# Altium schematic symbol library capacitors.SchLib: 195 symbols (part 3 of 4)
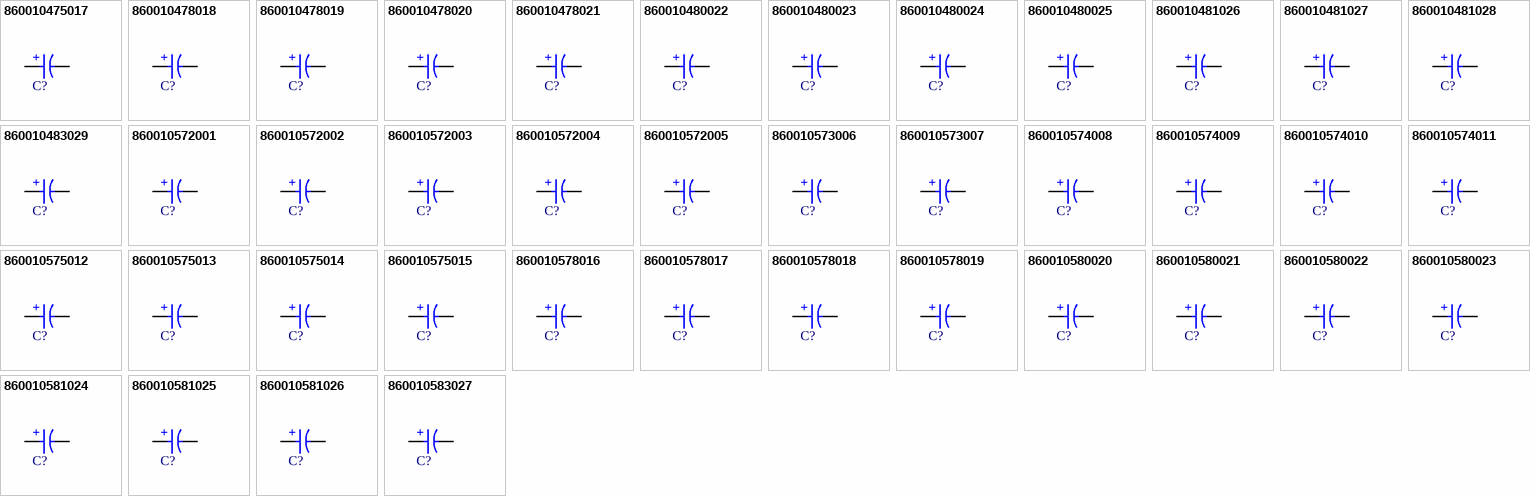
[diagram p6: symbols 860010475017 to 860010583027]

## 860010574011
designator C?, comment 220uF  (value not drawn)
WCAP-ATG8 Aluminum Electrolytic Capacitor, Radial, THT, D8 x H11.5mm, 220uF, 35V; Manufacturer Part Number: 860010574011; Manufacturer: Wurth Elektronik; Capacitance Tolerance: +/-20%; Dissipation Factor: 12%; Endurance: 2000h; Leakage Current: 77uA; Ripple Current: 385mA; Technical Reference: ATBE115221M035DSPA7B000; Category: Aluminum Electrolytic Capacitors; Match Code: WCAP-ATG8; ComponentLink1Description: Website Link; ComponentLink1URL: https://www.we-online.com/redexpert/article/860010574011?ad; ComponentLink2Description: Datasheet Link; ComponentLink2URL: https://www.we-online.com/redexpert/spec/860010574011?ad; Mount: Through Hole; Operating Temperature Max: 85°C; Operating Temperature Min: -40°C; Packaging: Ammo Pack; Height: 11.5mm; Diameter: 8mm; Capacitance: 220uF; Rated Voltage (DC): 35V
footprint WCAP-ATG8_D8H11.5
simulation model 860010574011_220uF
pins: 1 P, 2 N
text: +

## 860010575012
designator C?, comment 330uF  (value not drawn)
WCAP-ATG8 Aluminum Electrolytic Capacitor, Radial, THT, D10 x H12.5mm, 330uF, 35V; Manufacturer Part Number: 860010575012; Manufacturer: Wurth Elektronik; Capacitance Tolerance: +/-20%; Dissipation Factor: 12%; Endurance: 2000h; Leakage Current: 115.5uA; Ripple Current: 528mA; Technical Reference: ATBF125331M035DSPA9B000; Category: Aluminum Electrolytic Capacitors; Match Code: WCAP-ATG8; ComponentLink1Description: Website Link; ComponentLink1URL: https://www.we-online.com/redexpert/article/860010575012?ad; ComponentLink2Description: Datasheet Link; ComponentLink2URL: https://www.we-online.com/redexpert/spec/860010575012?ad; Mount: Through Hole; Operating Temperature Max: 85°C; Operating Temperature Min: -40°C; Packaging: Ammo Pack; Height: 12.5mm; Diameter: 10mm; Capacitance: 330uF; Rated Voltage (DC): 35V
footprint WCAP-ATG8_D10H12.5
simulation model 860010575012_330uF
pins: 1 P, 2 N
text: +

## 860010575013
designator C?, comment 470uF  (value not drawn)
WCAP-ATG8 Aluminum Electrolytic Capacitor, Radial, THT, D10 x H16mm, 470uF, 35V; Manufacturer Part Number: 860010575013; Manufacturer: Wurth Elektronik; Capacitance Tolerance: +/-20%; Dissipation Factor: 12%; Endurance: 2000h; Leakage Current: 164.5uA; Ripple Current: 693mA; Technical Reference: ATBF160471M035DSPAAB000; Category: Aluminum Electrolytic Capacitors; Match Code: WCAP-ATG8; ComponentLink1Description: Website Link; ComponentLink1URL: https://www.we-online.com/redexpert/article/860010575013?ad; ComponentLink2Description: Datasheet Link; ComponentLink2URL: https://www.we-online.com/redexpert/spec/860010575013?ad; Mount: Through Hole; Operating Temperature Max: 85°C; Operating Temperature Min: -40°C; Packaging: Ammo Pack; Height: 16mm; Diameter: 10mm; Capacitance: 470uF; Rated Voltage (DC): 35V
footprint WCAP-ATG8_D10H16
simulation model 860010575013_470uF
pins: 1 P, 2 N
text: +

## 860010575014
designator C?, comment 560uF  (value not drawn)
WCAP-ATG8 Aluminum Electrolytic Capacitor, Radial, THT, D10 x H20mm, 560uF, 35V; Manufacturer Part Number: 860010575014; Manufacturer: Wurth Elektronik; Capacitance Tolerance: +/-20%; Dissipation Factor: 12%; Endurance: 2000h; Leakage Current: 196uA; Ripple Current: 847mA; Technical Reference: ATBF200561M035DSPAAB000; Category: Aluminum Electrolytic Capacitors; Match Code: WCAP-ATG8; ComponentLink1Description: Website Link; ComponentLink1URL: https://www.we-online.com/redexpert/article/860010575014?ad; ComponentLink2Description: Datasheet Link; ComponentLink2URL: https://www.we-online.com/redexpert/spec/860010575014?ad; Mount: Through Hole; Operating Temperature Max: 85°C; Operating Temperature Min: -40°C; Packaging: Ammo Pack; Height: 20mm; Diameter: 10mm; Capacitance: 560uF; Rated Voltage (DC): 35V
footprint WCAP-ATG8_D10H20
simulation model 860010575014_560uF
pins: 1 P, 2 N
text: +

## 860010575015
designator C?, comment 680uF  (value not drawn)
WCAP-ATG8 Aluminum Electrolytic Capacitor, Radial, THT, D10 x H20mm, 680uF, 35V; Manufacturer Part Number: 860010575015; Manufacturer: Wurth Elektronik; Capacitance Tolerance: +/-20%; Dissipation Factor: 12%; Endurance: 2000h; Leakage Current: 238uA; Ripple Current: 891mA; Technical Reference: ATBF200681M035DSPAAB000; Category: Aluminum Electrolytic Capacitors; Match Code: WCAP-ATG8; ComponentLink1Description: Website Link; ComponentLink1URL: https://www.we-online.com/redexpert/article/860010575015?ad; ComponentLink2Description: Datasheet Link; ComponentLink2URL: https://www.we-online.com/redexpert/spec/860010575015?ad; Mount: Through Hole; Operating Temperature Max: 85°C; Operating Temperature Min: -40°C; Packaging: Ammo Pack; Height: 20mm; Diameter: 10mm; Capacitance: 680uF; Rated Voltage (DC): 35V
footprint WCAP-ATG8_D10H20
simulation model 860010575015_680uF
pins: 1 P, 2 N
text: +

## 860010578016
designator C?, comment 820uF  (value not drawn)
WCAP-ATG8 Aluminum Electrolytic Capacitor, Radial, THT, D13 x H20mm, 820uF, 35V; Manufacturer Part Number: 860010578016; Manufacturer: Wurth Elektronik; Capacitance Tolerance: +/-20%; Dissipation Factor: 12%; Endurance: 2000h; Leakage Current: 287uA; Ripple Current: 1045mA; Technical Reference: ATBI200821M035DSPACB000; Category: Aluminum Electrolytic Capacitors; Match Code: WCAP-ATG8; ComponentLink1Description: Website Link; ComponentLink1URL: https://www.we-online.com/redexpert/article/860010578016?ad; ComponentLink2Description: Datasheet Link; ComponentLink2URL: https://www.we-online.com/redexpert/spec/860010578016?ad; Mount: Through Hole; Operating Temperature Max: 85°C; Operating Temperature Min: -40°C; Packaging: Ammo Pack; Height: 20mm; Diameter: 13mm; Capacitance: 820uF; Rated Voltage (DC): 35V
footprint WCAP-ATG8_D13H20
simulation model 860010578016_820uF
pins: 1 P, 2 N
text: +

## 860010578017
designator C?, comment 1000uF  (value not drawn)
WCAP-ATG8 Aluminum Electrolytic Capacitor, Radial, THT, D13 x H20mm, 1000uF, 35V; Manufacturer Part Number: 860010578017; Manufacturer: Wurth Elektronik; Capacitance Tolerance: +/-20%; Dissipation Factor: 12%; Endurance: 2000h; Leakage Current: 350uA; Ripple Current: 1265mA; Technical Reference: ATBI200102M035DSPACB000; Category: Aluminum Electrolytic Capacitors; Match Code: WCAP-ATG8; ComponentLink1Description: Website Link; ComponentLink1URL: https://www.we-online.com/redexpert/article/860010578017?ad; ComponentLink2Description: Datasheet Link; ComponentLink2URL: https://www.we-online.com/redexpert/spec/860010578017?ad; Mount: Through Hole; Operating Temperature Max: 85°C; Operating Temperature Min: -40°C; Packaging: Ammo Pack; Height: 20mm; Diameter: 13mm; Capacitance: 1000uF; Rated Voltage (DC): 35V
footprint WCAP-ATG8_D13H20
simulation model 860010578017_1mF
pins: 1 P, 2 N
text: +

## 860010578018
designator C?, comment 1200uF  (value not drawn)
WCAP-ATG8 Aluminum Electrolytic Capacitor, Radial, THT, D13 x H20mm, 1200uF, 35V; Manufacturer Part Number: 860010578018; Manufacturer: Wurth Elektronik; Capacitance Tolerance: +/-20%; Dissipation Factor: 12%; Endurance: 2000h; Leakage Current: 420uA; Ripple Current: 1375mA; Technical Reference: ATBI200122M035DSPACB000; Category: Aluminum Electrolytic Capacitors; Match Code: WCAP-ATG8; ComponentLink1Description: Website Link; ComponentLink1URL: https://www.we-online.com/redexpert/article/860010578018?ad; ComponentLink2Description: Datasheet Link; ComponentLink2URL: https://www.we-online.com/redexpert/spec/860010578018?ad; Mount: Through Hole; Operating Temperature Max: 85°C; Operating Temperature Min: -40°C; Packaging: Ammo Pack; Height: 20mm; Diameter: 13mm; Capacitance: 1200uF; Rated Voltage (DC): 35V
footprint WCAP-ATG8_D13H20
simulation model 860010578018_1.2mF
pins: 1 P, 2 N
text: +

## 860010578019
designator C?, comment 1500uF  (value not drawn)
WCAP-ATG8 Aluminum Electrolytic Capacitor, Radial, THT, D13 x H25mm, 1500uF, 35V; Manufacturer Part Number: 860010578019; Manufacturer: Wurth Elektronik; Capacitance Tolerance: +/-20%; Dissipation Factor: 12%; Endurance: 2000h; Leakage Current: 525uA; Ripple Current: 1570mA; Technical Reference: ATBI250152M035DSPACB000; Category: Aluminum Electrolytic Capacitors; Match Code: WCAP-ATG8; ComponentLink1Description: Website Link; ComponentLink1URL: https://www.we-online.com/redexpert/article/860010578019?ad; ComponentLink2Description: Datasheet Link; ComponentLink2URL: https://www.we-online.com/redexpert/spec/860010578019?ad; Mount: Through Hole; Operating Temperature Max: 85°C; Operating Temperature Min: -40°C; Packaging: Ammo Pack; Height: 25mm; Diameter: 13mm; Capacitance: 1500uF; Rated Voltage (DC): 35V
footprint WCAP-ATG8_D13H25
simulation model 860010578019_1.5mF
pins: 1 P, 2 N
text: +

## 860010580020
designator C?, comment 1800uF  (value not drawn)
WCAP-ATG8 Aluminum Electrolytic Capacitor, Radial, THT, D16 x H25mm, 1800uF, 35V; Manufacturer Part Number: 860010580020; Manufacturer: Wurth Elektronik; Capacitance Tolerance: +/-20%; Dissipation Factor: 12%; Endurance: 2000h; Leakage Current: 630uA; Ripple Current: 1749mA; Technical Reference: ATBK250182M035DSPAEB000; Category: Aluminum Electrolytic Capacitors; Match Code: WCAP-ATG8; ComponentLink1Description: Website Link; ComponentLink1URL: https://www.we-online.com/redexpert/article/860010580020?ad; ComponentLink2Description: Datasheet Link; ComponentLink2URL: https://www.we-online.com/redexpert/spec/860010580020?ad; Mount: Through Hole; Operating Temperature Max: 85°C; Operating Temperature Min: -40°C; Packaging: Ammo Pack; Height: 25mm; Diameter: 16mm; Capacitance: 1800uF; Rated Voltage (DC): 35V
footprint WCAP-ATG8_D16H25
simulation model 860010580020_1.8mF
pins: 1 P, 2 N
text: +

## 860010580021
designator C?, comment 2200uF  (value not drawn)
WCAP-ATG8 Aluminum Electrolytic Capacitor, Radial, THT, D16 x H25mm, 2200uF, 35V; Manufacturer Part Number: 860010580021; Manufacturer: Wurth Elektronik; Capacitance Tolerance: +/-20%; Dissipation Factor: 12%; Endurance: 2000h; Leakage Current: 770uA; Ripple Current: 1870mA; Technical Reference: ATBK250222M035DSPAEB000; Category: Aluminum Electrolytic Capacitors; Match Code: WCAP-ATG8; ComponentLink1Description: Website Link; ComponentLink1URL: https://www.we-online.com/redexpert/article/860010580021?ad; ComponentLink2Description: Datasheet Link; ComponentLink2URL: https://www.we-online.com/redexpert/spec/860010580021?ad; Mount: Through Hole; Operating Temperature Max: 85°C; Operating Temperature Min: -40°C; Packaging: Ammo Pack; Height: 25mm; Diameter: 16mm; Capacitance: 2200uF; Rated Voltage (DC): 35V
footprint WCAP-ATG8_D16H25
simulation model 860010580021_2.2mF
pins: 1 P, 2 N
text: +

## 860010580022
designator C?, comment 2700uF  (value not drawn)
WCAP-ATG8 Aluminum Electrolytic Capacitor, Radial, THT, D16 x H31.5mm, 2700uF, 35V; Manufacturer Part Number: 860010580022; Manufacturer: Wurth Elektronik; Capacitance Tolerance: +/-20%; Dissipation Factor: 12%; Endurance: 2000h; Leakage Current: 945uA; Ripple Current: 2178mA; Technical Reference: ATBK315272M035DSPADB000; Category: Aluminum Electrolytic Capacitors; Match Code: WCAP-ATG8; ComponentLink1Description: Website Link; ComponentLink1URL: https://www.we-online.com/redexpert/article/860010580022?ad; ComponentLink2Description: Datasheet Link; ComponentLink2URL: https://www.we-online.com/redexpert/spec/860010580022?ad; Mount: Through Hole; Operating Temperature Max: 85°C; Operating Temperature Min: -40°C; Packaging: Ammo Pack; Height: 31.5mm; Diameter: 16mm; Capacitance: 2700uF; Rated Voltage (DC): 35V
footprint WCAP-ATG8_D16H31.5
simulation model 860010580022_2.7mF
pins: 1 P, 2 N
text: +

## 860010580023
designator C?, comment 3300uF  (value not drawn)
WCAP-ATG8 Aluminum Electrolytic Capacitor, Radial, THT, D16 x H31.5mm, 3300uF, 35V; Manufacturer Part Number: 860010580023; Manufacturer: Wurth Elektronik; Capacitance Tolerance: +/-20%; Dissipation Factor: 12%; Endurance: 2000h; Leakage Current: 1155uA; Ripple Current: 2365mA; Technical Reference: ATBK315332M035DSPADB000; Category: Aluminum Electrolytic Capacitors; Match Code: WCAP-ATG8; ComponentLink1Description: Website Link; ComponentLink1URL: https://www.we-online.com/redexpert/article/860010580023?ad; ComponentLink2Description: Datasheet Link; ComponentLink2URL: https://www.we-online.com/redexpert/spec/860010580023?ad; Mount: Through Hole; Operating Temperature Max: 85°C; Operating Temperature Min: -40°C; Packaging: Ammo Pack; Height: 31.5mm; Diameter: 16mm; Capacitance: 3300uF; Rated Voltage (DC): 35V
footprint WCAP-ATG8_D16H31.5
simulation model 860010580023_3.3mF
pins: 1 P, 2 N
text: +

## 860010581024
designator C?, comment 3900uF  (value not drawn)
WCAP-ATG8 Aluminum Electrolytic Capacitor, Radial, THT, D18 x H31.5mm, 3900uF, 35V; Manufacturer Part Number: 860010581024; Manufacturer: Wurth Elektronik; Capacitance Tolerance: +/-20%; Dissipation Factor: 12%; Endurance: 2000h; Leakage Current: 1365uA; Ripple Current: 2640mA; Technical Reference: ATBL315392M035DSPAEB000; Category: Aluminum Electrolytic Capacitors; Match Code: WCAP-ATG8; ComponentLink1Description: Website Link; ComponentLink1URL: https://www.we-online.com/redexpert/article/860010581024?ad; ComponentLink2Description: Datasheet Link; ComponentLink2URL: https://www.we-online.com/redexpert/spec/860010581024?ad; Mount: Through Hole; Operating Temperature Max: 85°C; Operating Temperature Min: -40°C; Packaging: Ammo Pack; Height: 31.5mm; Diameter: 18mm; Capacitance: 3900uF; Rated Voltage (DC): 35V
footprint WCAP-ATG8_D18H31.5
simulation model 860010581024_3.9mF
pins: 1 P, 2 N
text: +

## 860010581025
designator C?, comment 4700uF  (value not drawn)
WCAP-ATG8 Aluminum Electrolytic Capacitor, Radial, THT, D18 x H35.5mm, 4700uF, 35V; Manufacturer Part Number: 860010581025; Manufacturer: Wurth Elektronik; Capacitance Tolerance: +/-20%; Dissipation Factor: 12%; Endurance: 2000h; Leakage Current: 1645uA; Ripple Current: 2860mA; Technical Reference: ATBL355472M035DSPAEB000; Category: Aluminum Electrolytic Capacitors; Match Code: WCAP-ATG8; ComponentLink1Description: Website Link; ComponentLink1URL: https://www.we-online.com/redexpert/article/860010581025?ad; ComponentLink2Description: Datasheet Link; ComponentLink2URL: https://www.we-online.com/redexpert/spec/860010581025?ad; Mount: Through Hole; Operating Temperature Max: 85°C; Operating Temperature Min: -40°C; Packaging: Ammo Pack; Height: 35.5mm; Diameter: 18mm; Capacitance: 4700uF; Rated Voltage (DC): 35V
footprint WCAP-ATG8_D18H35.5
simulation model 860010581025_4.7mF
pins: 1 P, 2 N
text: +

## 860010581026
designator C?, comment 5600uF  (value not drawn)
WCAP-ATG8 Aluminum Electrolytic Capacitor, Radial, THT, D18 x H41mm, 5600uF, 35V; Manufacturer Part Number: 860010581026; Manufacturer: Wurth Elektronik; Capacitance Tolerance: +/-20%; Dissipation Factor: 12%; Endurance: 2000h; Leakage Current: 1960uA; Ripple Current: 2915mA; Technical Reference: ATBL410562M035DSPS1B000; Category: Aluminum Electrolytic Capacitors; Match Code: WCAP-ATG8; ComponentLink1Description: Website Link; ComponentLink1URL: https://www.we-online.com/redexpert/article/860010581026?ad; ComponentLink2Description: Datasheet Link; ComponentLink2URL: https://www.we-online.com/redexpert/spec/860010581026?ad; Mount: Through Hole; Operating Temperature Max: 85°C; Operating Temperature Min: -40°C; Packaging: Ammo Pack; Height: 41mm; Diameter: 18mm; Capacitance: 5600uF; Rated Voltage (DC): 35V
footprint WCAP-ATG8_D18H41
simulation model 860010581026_5.6mF
pins: 1 P, 2 N
text: +

## 860010583027
designator C?, comment 6800uF  (value not drawn)
WCAP-ATG8 Aluminum Electrolytic Capacitor, Radial, THT, D22 x H41mm, 6800uF, 35V; Manufacturer Part Number: 860010583027; Manufacturer: Wurth Elektronik; Capacitance Tolerance: +/-20%; Dissipation Factor: 12%; Endurance: 2000h; Leakage Current: 2380uA; Ripple Current: 3630mA; Technical Reference: ATBN410682M035DSPS2B000; Category: Aluminum Electrolytic Capacitors; Match Code: WCAP-ATG8; ComponentLink1Description: Website Link; ComponentLink1URL: https://www.we-online.com/redexpert/article/860010583027?ad; ComponentLink2Description: Datasheet Link; ComponentLink2URL: https://www.we-online.com/redexpert/spec/860010583027?ad; Mount: Through Hole; Operating Temperature Max: 85°C; Operating Temperature Min: -40°C; Packaging: Ammo Pack; Height: 41mm; Diameter: 22mm; Capacitance: 6800uF; Rated Voltage (DC): 35V
footprint WCAP-ATG8_D22H41
simulation model 860010583027_6.8mF
pins: 1 P, 2 N
text: +

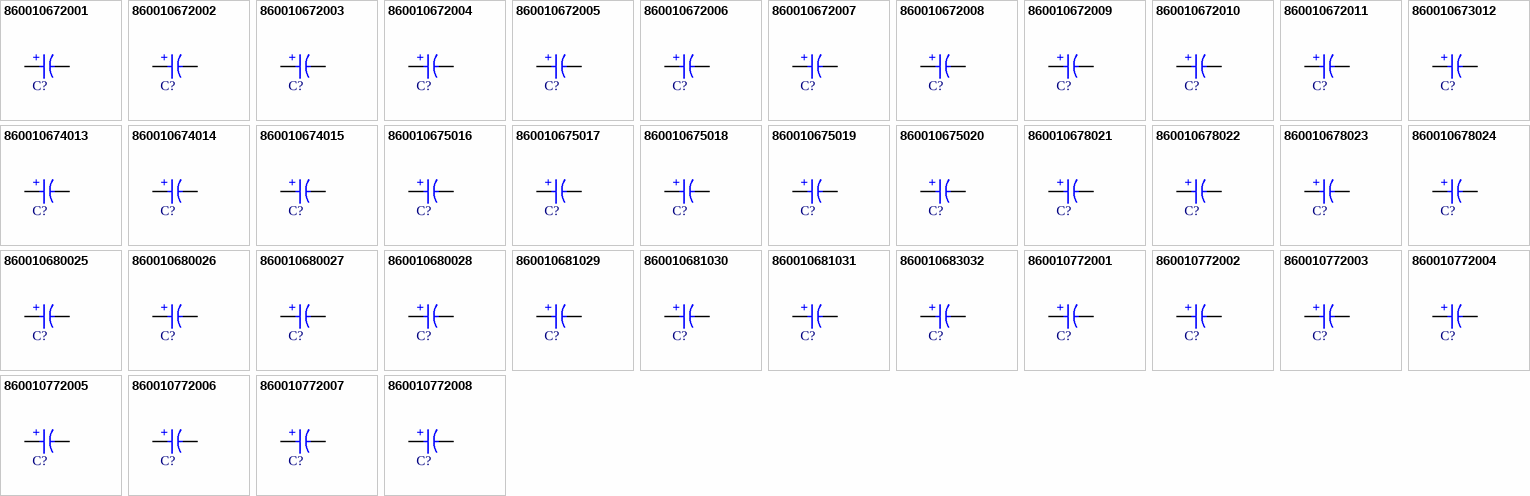
[diagram p3: symbols 860010672001 to 860010772008]

## 860010672001
designator C?, comment 0.1uF  (value not drawn)
WCAP-ATG8 Aluminum Electrolytic Capacitor, Radial, THT, D5 x H11mm, 0.1uF, 50V; Manufacturer Part Number: 860010672001; Manufacturer: Wurth Elektronik; Capacitance Tolerance: +/-20%; Dissipation Factor: 10%; Endurance: 2000h; Leakage Current: 3uA; Ripple Current: 3.3mA; Technical Reference: ATBC110R10M050DSPA3B000; Category: Aluminum Electrolytic Capacitors; Match Code: WCAP-ATG8; ComponentLink1Description: Website Link; ComponentLink1URL: https://www.we-online.com/redexpert/article/860010672001?ad; ComponentLink2Description: Datasheet Link; ComponentLink2URL: https://www.we-online.com/redexpert/spec/860010672001?ad; Mount: Through Hole; Operating Temperature Max: 85°C; Operating Temperature Min: -40°C; Packaging: Ammo Pack; Height: 11mm; Diameter: 5mm; Capacitance: 0.1uF; Rated Voltage (DC): 50V
footprint WCAP-ATG8_D5H11
simulation model 860010672001_100nF
pins: 1 P, 2 N
text: +

## 860010672002
designator C?, comment 0.22uF  (value not drawn)
WCAP-ATG8 Aluminum Electrolytic Capacitor, Radial, THT, D5 x H11mm, 0.22uF, 50V; Manufacturer Part Number: 860010672002; Manufacturer: Wurth Elektronik; Capacitance Tolerance: +/-20%; Dissipation Factor: 10%; Endurance: 2000h; Leakage Current: 3uA; Ripple Current: 3.3mA; Technical Reference: ATBC110R22M050DSPA3B000; Category: Aluminum Electrolytic Capacitors; Match Code: WCAP-ATG8; ComponentLink1Description: Website Link; ComponentLink1URL: https://www.we-online.com/redexpert/article/860010672002?ad; ComponentLink2Description: Datasheet Link; ComponentLink2URL: https://www.we-online.com/redexpert/spec/860010672002?ad; Mount: Through Hole; Operating Temperature Max: 85°C; Operating Temperature Min: -40°C; Packaging: Ammo Pack; Height: 11mm; Diameter: 5mm; Capacitance: 0.22uF; Rated Voltage (DC): 50V
footprint WCAP-ATG8_D5H11
simulation model 860010672002_220nF
pins: 1 P, 2 N
text: +

## 860010672003
designator C?, comment 0.33uF  (value not drawn)
WCAP-ATG8 Aluminum Electrolytic Capacitor, Radial, THT, D5 x H11mm, 0.33uF, 50V; Manufacturer Part Number: 860010672003; Manufacturer: Wurth Elektronik; Capacitance Tolerance: +/-20%; Dissipation Factor: 10%; Endurance: 2000h; Leakage Current: 3uA; Ripple Current: 5.5mA; Technical Reference: ATBC110R33M050DSPA3B000; Category: Aluminum Electrolytic Capacitors; Match Code: WCAP-ATG8; ComponentLink1Description: Website Link; ComponentLink1URL: https://www.we-online.com/redexpert/article/860010672003?ad; ComponentLink2Description: Datasheet Link; ComponentLink2URL: https://www.we-online.com/redexpert/spec/860010672003?ad; Mount: Through Hole; Operating Temperature Max: 85°C; Operating Temperature Min: -40°C; Packaging: Ammo Pack; Height: 11mm; Diameter: 5mm; Capacitance: 0.33uF; Rated Voltage (DC): 50V
footprint WCAP-ATG8_D5H11
simulation model 860010672003_330nF
pins: 1 P, 2 N
text: +

## 860010672004
designator C?, comment 0.47uF  (value not drawn)
WCAP-ATG8 Aluminum Electrolytic Capacitor, Radial, THT, D5 x H11mm, 0.47uF, 50V; Manufacturer Part Number: 860010672004; Manufacturer: Wurth Elektronik; Capacitance Tolerance: +/-20%; Dissipation Factor: 10%; Endurance: 2000h; Leakage Current: 3uA; Ripple Current: 7.5mA; Technical Reference: ATBC110R47M050DSPA3B000; Category: Aluminum Electrolytic Capacitors; Match Code: WCAP-ATG8; ComponentLink1Description: Website Link; ComponentLink1URL: https://www.we-online.com/redexpert/article/860010672004?ad; ComponentLink2Description: Datasheet Link; ComponentLink2URL: https://www.we-online.com/redexpert/spec/860010672004?ad; Mount: Through Hole; Operating Temperature Max: 85°C; Operating Temperature Min: -40°C; Packaging: Ammo Pack; Height: 11mm; Diameter: 5mm; Capacitance: 0.47uF; Rated Voltage (DC): 50V
footprint WCAP-ATG8_D5H11
simulation model 860010672004_470nF
pins: 1 P, 2 N
text: +

## 860010672005
designator C?, comment 1uF  (value not drawn)
WCAP-ATG8 Aluminum Electrolytic Capacitor, Radial, THT, D5 x H11mm, 1uF, 50V; Manufacturer Part Number: 860010672005; Manufacturer: Wurth Elektronik; Capacitance Tolerance: +/-20%; Dissipation Factor: 10%; Endurance: 2000h; Leakage Current: 3uA; Ripple Current: 17mA; Technical Reference: ATBC110010M050DSPA3B000; Category: Aluminum Electrolytic Capacitors; Match Code: WCAP-ATG8; ComponentLink1Description: Website Link; ComponentLink1URL: https://www.we-online.com/redexpert/article/860010672005?ad; ComponentLink2Description: Datasheet Link; ComponentLink2URL: https://www.we-online.com/redexpert/spec/860010672005?ad; Mount: Through Hole; Operating Temperature Max: 85°C; Operating Temperature Min: -40°C; Packaging: Ammo Pack; Height: 11mm; Diameter: 5mm; Capacitance: 1uF; Rated Voltage (DC): 50V
footprint WCAP-ATG8_D5H11
simulation model 860010672005_1uF
pins: 1 P, 2 N
text: +

## 860010672006
designator C?, comment 2.2uF  (value not drawn)
WCAP-ATG8 Aluminum Electrolytic Capacitor, Radial, THT, D5 x H11mm, 2.2uF, 50V; Manufacturer Part Number: 860010672006; Manufacturer: Wurth Elektronik; Capacitance Tolerance: +/-20%; Dissipation Factor: 10%; Endurance: 2000h; Leakage Current: 3uA; Ripple Current: 28mA; Technical Reference: ATBC1102R2M050DSPA3B000; Category: Aluminum Electrolytic Capacitors; Match Code: WCAP-ATG8; ComponentLink1Description: Website Link; ComponentLink1URL: https://www.we-online.com/redexpert/article/860010672006?ad; ComponentLink2Description: Datasheet Link; ComponentLink2URL: https://www.we-online.com/redexpert/spec/860010672006?ad; Mount: Through Hole; Operating Temperature Max: 85°C; Operating Temperature Min: -40°C; Packaging: Ammo Pack; Height: 11mm; Diameter: 5mm; Capacitance: 2.2uF; Rated Voltage (DC): 50V
footprint WCAP-ATG8_D5H11
simulation model 860010672006_2.2uF
pins: 1 P, 2 N
text: +

## 860010672007
designator C?, comment 3.3uF  (value not drawn)
WCAP-ATG8 Aluminum Electrolytic Capacitor, Radial, THT, D5 x H11mm, 3.3uF, 50V; Manufacturer Part Number: 860010672007; Manufacturer: Wurth Elektronik; Capacitance Tolerance: +/-20%; Dissipation Factor: 10%; Endurance: 2000h; Leakage Current: 3uA; Ripple Current: 39mA; Technical Reference: ATBC1103R3M050DSPA3B000; Category: Aluminum Electrolytic Capacitors; Match Code: WCAP-ATG8; ComponentLink1Description: Website Link; ComponentLink1URL: https://www.we-online.com/redexpert/article/860010672007?ad; ComponentLink2Description: Datasheet Link; ComponentLink2URL: https://www.we-online.com/redexpert/spec/860010672007?ad; Mount: Through Hole; Operating Temperature Max: 85°C; Operating Temperature Min: -40°C; Packaging: Ammo Pack; Height: 11mm; Diameter: 5mm; Capacitance: 3.3uF; Rated Voltage (DC): 50V
footprint WCAP-ATG8_D5H11
simulation model 860010672007_3.3uF
pins: 1 P, 2 N
text: +

## 860010672008
designator C?, comment 4.7uF  (value not drawn)
WCAP-ATG8 Aluminum Electrolytic Capacitor, Radial, THT, D5 x H11mm, 4.7uF, 50V; Manufacturer Part Number: 860010672008; Manufacturer: Wurth Elektronik; Capacitance Tolerance: +/-20%; Dissipation Factor: 10%; Endurance: 2000h; Leakage Current: 3uA; Ripple Current: 46mA; Technical Reference: ATBC1104R7M050DSPA3B000; Category: Aluminum Electrolytic Capacitors; Match Code: WCAP-ATG8; ComponentLink1Description: Website Link; ComponentLink1URL: https://www.we-online.com/redexpert/article/860010672008?ad; ComponentLink2Description: Datasheet Link; ComponentLink2URL: https://www.we-online.com/redexpert/spec/860010672008?ad; Mount: Through Hole; Operating Temperature Max: 85°C; Operating Temperature Min: -40°C; Packaging: Ammo Pack; Height: 11mm; Diameter: 5mm; Capacitance: 4.7uF; Rated Voltage (DC): 50V
footprint WCAP-ATG8_D5H11
simulation model 860010672008_4.7uF
pins: 1 P, 2 N
text: +

## 860010672009
designator C?, comment 10uF  (value not drawn)
WCAP-ATG8 Aluminum Electrolytic Capacitor, Radial, THT, D5 x H11mm, 10uF, 50V; Manufacturer Part Number: 860010672009; Manufacturer: Wurth Elektronik; Capacitance Tolerance: +/-20%; Dissipation Factor: 10%; Endurance: 2000h; Leakage Current: 5uA; Ripple Current: 72mA; Technical Reference: ATBC110100M050DSPA3B000; Category: Aluminum Electrolytic Capacitors; Match Code: WCAP-ATG8; ComponentLink1Description: Website Link; ComponentLink1URL: https://www.we-online.com/redexpert/article/860010672009?ad; ComponentLink2Description: Datasheet Link; ComponentLink2URL: https://www.we-online.com/redexpert/spec/860010672009?ad; Mount: Through Hole; Operating Temperature Max: 85°C; Operating Temperature Min: -40°C; Packaging: Ammo Pack; Height: 11mm; Diameter: 5mm; Capacitance: 10uF; Rated Voltage (DC): 50V
footprint WCAP-ATG8_D5H11
simulation model 860010672009_10uF
pins: 1 P, 2 N
text: +

## 860010672010
designator C?, comment 22uF  (value not drawn)
WCAP-ATG8 Aluminum Electrolytic Capacitor, Radial, THT, D5 x H11mm, 22uF, 50V; Manufacturer Part Number: 860010672010; Manufacturer: Wurth Elektronik; Capacitance Tolerance: +/-20%; Dissipation Factor: 10%; Endurance: 2000h; Leakage Current: 11uA; Ripple Current: 110mA; Technical Reference: ATBC110220M050DSPA3B000; Category: Aluminum Electrolytic Capacitors; Match Code: WCAP-ATG8; ComponentLink1Description: Website Link; ComponentLink1URL: https://www.we-online.com/redexpert/article/860010672010?ad; ComponentLink2Description: Datasheet Link; ComponentLink2URL: https://www.we-online.com/redexpert/spec/860010672010?ad; Mount: Through Hole; Operating Temperature Max: 85°C; Operating Temperature Min: -40°C; Packaging: Ammo Pack; Height: 11mm; Diameter: 5mm; Capacitance: 22uF; Rated Voltage (DC): 50V
footprint WCAP-ATG8_D5H11
simulation model 860010672010_22uF
pins: 1 P, 2 N
text: +

## 860010672011
designator C?, comment 33uF  (value not drawn)
WCAP-ATG8 Aluminum Electrolytic Capacitor, Radial, THT, D5 x H11mm, 33uF, 50V; Manufacturer Part Number: 860010672011; Manufacturer: Wurth Elektronik; Capacitance Tolerance: +/-20%; Dissipation Factor: 10%; Endurance: 2000h; Leakage Current: 16.5uA; Ripple Current: 132mA; Technical Reference: ATBC110330M050DSPA3B000; Category: Aluminum Electrolytic Capacitors; Match Code: WCAP-ATG8; ComponentLink1Description: Website Link; ComponentLink1URL: https://www.we-online.com/redexpert/article/860010672011?ad; ComponentLink2Description: Datasheet Link; ComponentLink2URL: https://www.we-online.com/redexpert/spec/860010672011?ad; Mount: Through Hole; Operating Temperature Max: 85°C; Operating Temperature Min: -40°C; Packaging: Ammo Pack; Height: 11mm; Diameter: 5mm; Capacitance: 33uF; Rated Voltage (DC): 50V
footprint WCAP-ATG8_D5H11
simulation model 860010672011_33uF
pins: 1 P, 2 N
text: +

## 860010673012
designator C?, comment 47uF  (value not drawn)
WCAP-ATG8 Aluminum Electrolytic Capacitor, Radial, THT, D6.3 x H11mm, 47uF, 50V; Manufacturer Part Number: 860010673012; Manufacturer: Wurth Elektronik; Capacitance Tolerance: +/-20%; Dissipation Factor: 10%; Endurance: 2000h; Leakage Current: 23.5uA; Ripple Current: 165mA; Technical Reference: ATBD110470M050DSPA4B000; Category: Aluminum Electrolytic Capacitors; Match Code: WCAP-ATG8; ComponentLink1Description: Website Link; ComponentLink1URL: https://www.we-online.com/redexpert/article/860010673012?ad; ComponentLink2Description: Datasheet Link; ComponentLink2URL: https://www.we-online.com/redexpert/spec/860010673012?ad; Mount: Through Hole; Operating Temperature Max: 85°C; Operating Temperature Min: -40°C; Packaging: Ammo Pack; Height: 11mm; Diameter: 6.3mm; Capacitance: 47uF; Rated Voltage (DC): 50V
footprint WCAP-ATG8_D6.3H11
simulation model 860010673012_47uF
pins: 1 P, 2 N
text: +

## 860010674013
designator C?, comment 68uF  (value not drawn)
WCAP-ATG8 Aluminum Electrolytic Capacitor, Radial, THT, D8 x H11.5mm, 68uF, 50V; Manufacturer Part Number: 860010674013; Manufacturer: Wurth Elektronik; Capacitance Tolerance: +/-20%; Dissipation Factor: 10%; Endurance: 2000h; Leakage Current: 34uA; Ripple Current: 220mA; Technical Reference: ATBE115680M050DSPA7B000; Category: Aluminum Electrolytic Capacitors; Match Code: WCAP-ATG8; ComponentLink1Description: Website Link; ComponentLink1URL: https://www.we-online.com/redexpert/article/860010674013?ad; ComponentLink2Description: Datasheet Link; ComponentLink2URL: https://www.we-online.com/redexpert/spec/860010674013?ad; Mount: Through Hole; Operating Temperature Max: 85°C; Operating Temperature Min: -40°C; Packaging: Ammo Pack; Height: 11.5mm; Diameter: 8mm; Capacitance: 68uF; Rated Voltage (DC): 50V
footprint WCAP-ATG8_D8H11.5
simulation model 860010674013_68uF
pins: 1 P, 2 N
text: +

## 860010674014
designator C?, comment 100uF  (value not drawn)
WCAP-ATG8 Aluminum Electrolytic Capacitor, Radial, THT, D8 x H11.5mm, 100uF, 50V; Manufacturer Part Number: 860010674014; Manufacturer: Wurth Elektronik; Capacitance Tolerance: +/-20%; Dissipation Factor: 10%; Endurance: 2000h; Leakage Current: 50uA; Ripple Current: 286mA; Technical Reference: ATBE115101M050DSPA7B000; Category: Aluminum Electrolytic Capacitors; Match Code: WCAP-ATG8; ComponentLink1Description: Website Link; ComponentLink1URL: https://www.we-online.com/redexpert/article/860010674014?ad; ComponentLink2Description: Datasheet Link; ComponentLink2URL: https://www.we-online.com/redexpert/spec/860010674014?ad; Mount: Through Hole; Operating Temperature Max: 85°C; Operating Temperature Min: -40°C; Packaging: Ammo Pack; Height: 11.5mm; Diameter: 8mm; Capacitance: 100uF; Rated Voltage (DC): 50V
footprint WCAP-ATG8_D8H11.5
simulation model 860010674014_100uF
pins: 1 P, 2 N
text: +

## 860010674015
designator C?, comment 120uF  (value not drawn)
WCAP-ATG8 Aluminum Electrolytic Capacitor, Radial, THT, D8 x H11.5mm, 120uF, 50V; Manufacturer Part Number: 860010674015; Manufacturer: Wurth Elektronik; Capacitance Tolerance: +/-20%; Dissipation Factor: 10%; Endurance: 2000h; Leakage Current: 60uA; Ripple Current: 319mA; Technical Reference: ATBE115121M050DSPA7B000; Category: Aluminum Electrolytic Capacitors; Match Code: WCAP-ATG8; ComponentLink1Description: Website Link; ComponentLink1URL: https://www.we-online.com/redexpert/article/860010674015?ad; ComponentLink2Description: Datasheet Link; ComponentLink2URL: https://www.we-online.com/redexpert/spec/860010674015?ad; Mount: Through Hole; Operating Temperature Max: 85°C; Operating Temperature Min: -40°C; Packaging: Ammo Pack; Height: 11.5mm; Diameter: 8mm; Capacitance: 120uF; Rated Voltage (DC): 50V
footprint WCAP-ATG8_D8H11.5
simulation model 860010674015_120uF
pins: 1 P, 2 N
text: +

## 860010675016
designator C?, comment 150uF  (value not drawn)
WCAP-ATG8 Aluminum Electrolytic Capacitor, Radial, THT, D10 x H12.5mm, 150uF, 50V; Manufacturer Part Number: 860010675016; Manufacturer: Wurth Elektronik; Capacitance Tolerance: +/-20%; Dissipation Factor: 10%; Endurance: 2000h; Leakage Current: 75uA; Ripple Current: 363mA; Technical Reference: ATBF125151M050DSPA9B000; Category: Aluminum Electrolytic Capacitors; Match Code: WCAP-ATG8; ComponentLink1Description: Website Link; ComponentLink1URL: https://www.we-online.com/redexpert/article/860010675016?ad; ComponentLink2Description: Datasheet Link; ComponentLink2URL: https://www.we-online.com/redexpert/spec/860010675016?ad; Mount: Through Hole; Operating Temperature Max: 85°C; Operating Temperature Min: -40°C; Packaging: Ammo Pack; Height: 12.5mm; Diameter: 10mm; Capacitance: 150uF; Rated Voltage (DC): 50V
footprint WCAP-ATG8_D10H12.5
simulation model 860010675016_150uF
pins: 1 P, 2 N
text: +

## 860010675017
designator C?, comment 180uF  (value not drawn)
WCAP-ATG8 Aluminum Electrolytic Capacitor, Radial, THT, D10 x H12.5mm, 180uF, 50V; Manufacturer Part Number: 860010675017; Manufacturer: Wurth Elektronik; Capacitance Tolerance: +/-20%; Dissipation Factor: 10%; Endurance: 2000h; Leakage Current: 90uA; Ripple Current: 418mA; Technical Reference: ATBF125181M050DSPA9B000; Category: Aluminum Electrolytic Capacitors; Match Code: WCAP-ATG8; ComponentLink1Description: Website Link; ComponentLink1URL: https://www.we-online.com/redexpert/article/860010675017?ad; ComponentLink2Description: Datasheet Link; ComponentLink2URL: https://www.we-online.com/redexpert/spec/860010675017?ad; Mount: Through Hole; Operating Temperature Max: 85°C; Operating Temperature Min: -40°C; Packaging: Ammo Pack; Height: 12.5mm; Diameter: 10mm; Capacitance: 180uF; Rated Voltage (DC): 50V
footprint WCAP-ATG8_D10H12.5
simulation model 860010675017_180uF
pins: 1 P, 2 N
text: +

## 860010675018
designator C?, comment 220uF  (value not drawn)
WCAP-ATG8 Aluminum Electrolytic Capacitor, Radial, THT, D10 x H12.5mm, 220uF, 50V; Manufacturer Part Number: 860010675018; Manufacturer: Wurth Elektronik; Capacitance Tolerance: +/-20%; Dissipation Factor: 10%; Endurance: 2000h; Leakage Current: 110uA; Ripple Current: 468mA; Technical Reference: ATBF125221M050DSPA9B000; Category: Aluminum Electrolytic Capacitors; Match Code: WCAP-ATG8; ComponentLink1Description: Website Link; ComponentLink1URL: https://www.we-online.com/redexpert/article/860010675018?ad; ComponentLink2Description: Datasheet Link; ComponentLink2URL: https://www.we-online.com/redexpert/spec/860010675018?ad; Mount: Through Hole; Operating Temperature Max: 85°C; Operating Temperature Min: -40°C; Packaging: Ammo Pack; Height: 12.5mm; Diameter: 10mm; Capacitance: 220uF; Rated Voltage (DC): 50V
footprint WCAP-ATG8_D10H12.5
simulation model 860010675018_220uF
pins: 1 P, 2 N
text: +

## 860010675019
designator C?, comment 330uF  (value not drawn)
WCAP-ATG8 Aluminum Electrolytic Capacitor, Radial, THT, D10 x H16mm, 330uF, 50V; Manufacturer Part Number: 860010675019; Manufacturer: Wurth Elektronik; Capacitance Tolerance: +/-20%; Dissipation Factor: 10%; Endurance: 2000h; Leakage Current: 165uA; Ripple Current: 649mA; Technical Reference: ATBF160331M050DSPAAB000; Category: Aluminum Electrolytic Capacitors; Match Code: WCAP-ATG8; ComponentLink1Description: Website Link; ComponentLink1URL: https://www.we-online.com/redexpert/article/860010675019?ad; ComponentLink2Description: Datasheet Link; ComponentLink2URL: https://www.we-online.com/redexpert/spec/860010675019?ad; Mount: Through Hole; Operating Temperature Max: 85°C; Operating Temperature Min: -40°C; Packaging: Ammo Pack; Height: 16mm; Diameter: 10mm; Capacitance: 330uF; Rated Voltage (DC): 50V
footprint WCAP-ATG8_D10H16
simulation model 860010675019_330uF
pins: 1 P, 2 N
text: +

## 860010675020
designator C?, comment 470uF  (value not drawn)
WCAP-ATG8 Aluminum Electrolytic Capacitor, Radial, THT, D10 x H20mm, 470uF, 50V; Manufacturer Part Number: 860010675020; Manufacturer: Wurth Elektronik; Capacitance Tolerance: +/-20%; Dissipation Factor: 10%; Endurance: 2000h; Leakage Current: 235uA; Ripple Current: 828mA; Technical Reference: ATBF200471M050DSPAAB000; Category: Aluminum Electrolytic Capacitors; Match Code: WCAP-ATG8; ComponentLink1Description: Website Link; ComponentLink1URL: https://www.we-online.com/redexpert/article/860010675020?ad; ComponentLink2Description: Datasheet Link; ComponentLink2URL: https://www.we-online.com/redexpert/spec/860010675020?ad; Mount: Through Hole; Operating Temperature Max: 85°C; Operating Temperature Min: -40°C; Packaging: Ammo Pack; Height: 20mm; Diameter: 10mm; Capacitance: 470uF; Rated Voltage (DC): 50V
footprint WCAP-ATG8_D10H20
simulation model 860010675020_470uF
pins: 1 P, 2 N
text: +

## 860010678021
designator C?, comment 560uF  (value not drawn)
WCAP-ATG8 Aluminum Electrolytic Capacitor, Radial, THT, D13 x H20mm, 560uF, 50V; Manufacturer Part Number: 860010678021; Manufacturer: Wurth Elektronik; Capacitance Tolerance: +/-20%; Dissipation Factor: 10%; Endurance: 2000h; Leakage Current: 280uA; Ripple Current: 902mA; Technical Reference: ATBI200561M050DSPACB000; Category: Aluminum Electrolytic Capacitors; Match Code: WCAP-ATG8; ComponentLink1Description: Website Link; ComponentLink1URL: https://www.we-online.com/redexpert/article/860010678021?ad; ComponentLink2Description: Datasheet Link; ComponentLink2URL: https://www.we-online.com/redexpert/spec/860010678021?ad; Mount: Through Hole; Operating Temperature Max: 85°C; Operating Temperature Min: -40°C; Packaging: Ammo Pack; Height: 20mm; Diameter: 13mm; Capacitance: 560uF; Rated Voltage (DC): 50V
footprint WCAP-ATG8_D13H20
simulation model 860010678021_560uF
pins: 1 P, 2 N
text: +

## 860010678022
designator C?, comment 680uF  (value not drawn)
WCAP-ATG8 Aluminum Electrolytic Capacitor, Radial, THT, D13 x H20mm, 680uF, 50V; Manufacturer Part Number: 860010678022; Manufacturer: Wurth Elektronik; Capacitance Tolerance: +/-20%; Dissipation Factor: 10%; Endurance: 2000h; Leakage Current: 340uA; Ripple Current: 1056mA; Technical Reference: ATBI200681M050DSPACB000; Category: Aluminum Electrolytic Capacitors; Match Code: WCAP-ATG8; ComponentLink1Description: Website Link; ComponentLink1URL: https://www.we-online.com/redexpert/article/860010678022?ad; ComponentLink2Description: Datasheet Link; ComponentLink2URL: https://www.we-online.com/redexpert/spec/860010678022?ad; Mount: Through Hole; Operating Temperature Max: 85°C; Operating Temperature Min: -40°C; Packaging: Ammo Pack; Height: 20mm; Diameter: 13mm; Capacitance: 680uF; Rated Voltage (DC): 50V
footprint WCAP-ATG8_D13H20
simulation model 860010678022_680uF
pins: 1 P, 2 N
text: +

## 860010678023
designator C?, comment 820uF  (value not drawn)
WCAP-ATG8 Aluminum Electrolytic Capacitor, Radial, THT, D13 x H25mm, 820uF, 50V; Manufacturer Part Number: 860010678023; Manufacturer: Wurth Elektronik; Capacitance Tolerance: +/-20%; Dissipation Factor: 10%; Endurance: 2000h; Leakage Current: 410uA; Ripple Current: 1287mA; Technical Reference: ATBI250821M050DSPACB000; Category: Aluminum Electrolytic Capacitors; Match Code: WCAP-ATG8; ComponentLink1Description: Website Link; ComponentLink1URL: https://www.we-online.com/redexpert/article/860010678023?ad; ComponentLink2Description: Datasheet Link; ComponentLink2URL: https://www.we-online.com/redexpert/spec/860010678023?ad; Mount: Through Hole; Operating Temperature Max: 85°C; Operating Temperature Min: -40°C; Packaging: Ammo Pack; Height: 25mm; Diameter: 13mm; Capacitance: 820uF; Rated Voltage (DC): 50V
footprint WCAP-ATG8_D13H25
simulation model 860010678023_820uF
pins: 1 P, 2 N
text: +

## 860010678024
designator C?, comment 1000uF  (value not drawn)
WCAP-ATG8 Aluminum Electrolytic Capacitor, Radial, THT, D13 x H25mm, 1000uF, 50V; Manufacturer Part Number: 860010678024; Manufacturer: Wurth Elektronik; Capacitance Tolerance: +/-20%; Dissipation Factor: 10%; Endurance: 2000h; Leakage Current: 500uA; Ripple Current: 1485mA; Technical Reference: ATBI250102M050DSPACB000; Category: Aluminum Electrolytic Capacitors; Match Code: WCAP-ATG8; ComponentLink1Description: Website Link; ComponentLink1URL: https://www.we-online.com/redexpert/article/860010678024?ad; ComponentLink2Description: Datasheet Link; ComponentLink2URL: https://www.we-online.com/redexpert/spec/860010678024?ad; Mount: Through Hole; Operating Temperature Max: 85°C; Operating Temperature Min: -40°C; Packaging: Ammo Pack; Height: 25mm; Diameter: 13mm; Capacitance: 1000uF; Rated Voltage (DC): 50V
footprint WCAP-ATG8_D13H25
simulation model 860010678024_1mF
pins: 1 P, 2 N
text: +

## 860010680025
designator C?, comment 1200uF  (value not drawn)
WCAP-ATG8 Aluminum Electrolytic Capacitor, Radial, THT, D16 x H25mm, 1200uF, 50V; Manufacturer Part Number: 860010680025; Manufacturer: Wurth Elektronik; Capacitance Tolerance: +/-20%; Dissipation Factor: 10%; Endurance: 2000h; Leakage Current: 600uA; Ripple Current: 1617mA; Technical Reference: ATBK250122M050DSPAEB000; Category: Aluminum Electrolytic Capacitors; Match Code: WCAP-ATG8; ComponentLink1Description: Website Link; ComponentLink1URL: https://www.we-online.com/redexpert/article/860010680025?ad; ComponentLink2Description: Datasheet Link; ComponentLink2URL: https://www.we-online.com/redexpert/spec/860010680025?ad; Mount: Through Hole; Operating Temperature Max: 85°C; Operating Temperature Min: -40°C; Packaging: Ammo Pack; Height: 25mm; Diameter: 16mm; Capacitance: 1200uF; Rated Voltage (DC): 50V
footprint WCAP-ATG8_D16H25
simulation model 860010680025_1.2mF
pins: 1 P, 2 N
text: +

## 860010680026
designator C?, comment 1500uF  (value not drawn)
WCAP-ATG8 Aluminum Electrolytic Capacitor, Radial, THT, D16 x H31.5mm, 1500uF, 50V; Manufacturer Part Number: 860010680026; Manufacturer: Wurth Elektronik; Capacitance Tolerance: +/-20%; Dissipation Factor: 10%; Endurance: 2000h; Leakage Current: 750uA; Ripple Current: 1848mA; Technical Reference: ATBK315152M050DSPADB000; Category: Aluminum Electrolytic Capacitors; Match Code: WCAP-ATG8; ComponentLink1Description: Website Link; ComponentLink1URL: https://www.we-online.com/redexpert/article/860010680026?ad; ComponentLink2Description: Datasheet Link; ComponentLink2URL: https://www.we-online.com/redexpert/spec/860010680026?ad; Mount: Through Hole; Operating Temperature Max: 85°C; Operating Temperature Min: -40°C; Packaging: Ammo Pack; Height: 31.5mm; Diameter: 16mm; Capacitance: 1500uF; Rated Voltage (DC): 50V
footprint WCAP-ATG8_D16H31.5
simulation model 860010680026_1.5mF
pins: 1 P, 2 N
text: +

## 860010680027
designator C?, comment 1800uF  (value not drawn)
WCAP-ATG8 Aluminum Electrolytic Capacitor, Radial, THT, D16 x H31.5mm, 1800uF, 50V; Manufacturer Part Number: 860010680027; Manufacturer: Wurth Elektronik; Capacitance Tolerance: +/-20%; Dissipation Factor: 10%; Endurance: 2000h; Leakage Current: 900uA; Ripple Current: 2112mA; Technical Reference: ATBK315182M050DSPADB000; Category: Aluminum Electrolytic Capacitors; Match Code: WCAP-ATG8; ComponentLink1Description: Website Link; ComponentLink1URL: https://www.we-online.com/redexpert/article/860010680027?ad; ComponentLink2Description: Datasheet Link; ComponentLink2URL: https://www.we-online.com/redexpert/spec/860010680027?ad; Mount: Through Hole; Operating Temperature Max: 85°C; Operating Temperature Min: -40°C; Packaging: Ammo Pack; Height: 31.5mm; Diameter: 16mm; Capacitance: 1800uF; Rated Voltage (DC): 50V
footprint WCAP-ATG8_D16H31.5
simulation model 860010680027_1.8mF
pins: 1 P, 2 N
text: +

## 860010680028
designator C?, comment 2200uF  (value not drawn)
WCAP-ATG8 Aluminum Electrolytic Capacitor, Radial, THT, D16 x H35.5mm, 2200uF, 50V; Manufacturer Part Number: 860010680028; Manufacturer: Wurth Elektronik; Capacitance Tolerance: +/-20%; Dissipation Factor: 10%; Endurance: 2000h; Leakage Current: 1100uA; Ripple Current: 2310mA; Technical Reference: ATBK355222M050DSPADB000; Category: Aluminum Electrolytic Capacitors; Match Code: WCAP-ATG8; ComponentLink1Description: Website Link; ComponentLink1URL: https://www.we-online.com/redexpert/article/860010680028?ad; ComponentLink2Description: Datasheet Link; ComponentLink2URL: https://www.we-online.com/redexpert/spec/860010680028?ad; Mount: Through Hole; Operating Temperature Max: 85°C; Operating Temperature Min: -40°C; Packaging: Ammo Pack; Height: 35.5mm; Diameter: 16mm; Capacitance: 2200uF; Rated Voltage (DC): 50V
footprint WCAP-ATG8_D16H35.5
simulation model 860010680028_2.2mF
pins: 1 P, 2 N
text: +

## 860010681029
designator C?, comment 2700uF  (value not drawn)
WCAP-ATG8 Aluminum Electrolytic Capacitor, Radial, THT, D18 x H31.5mm, 2700uF, 50V; Manufacturer Part Number: 860010681029; Manufacturer: Wurth Elektronik; Capacitance Tolerance: +/-20%; Dissipation Factor: 10%; Endurance: 2000h; Leakage Current: 1350uA; Ripple Current: 2420mA; Technical Reference: ATBL315272M050DSPAEB000; Category: Aluminum Electrolytic Capacitors; Match Code: WCAP-ATG8; ComponentLink1Description: Website Link; ComponentLink1URL: https://www.we-online.com/redexpert/article/860010681029?ad; ComponentLink2Description: Datasheet Link; ComponentLink2URL: https://www.we-online.com/redexpert/spec/860010681029?ad; Mount: Through Hole; Operating Temperature Max: 85°C; Operating Temperature Min: -40°C; Packaging: Ammo Pack; Height: 31.5mm; Diameter: 18mm; Capacitance: 2700uF; Rated Voltage (DC): 50V
footprint WCAP-ATG8_D18H31.5
simulation model 860010681029_2.7mF
pins: 1 P, 2 N
text: +

## 860010681030
designator C?, comment 3300uF  (value not drawn)
WCAP-ATG8 Aluminum Electrolytic Capacitor, Radial, THT, D18 x H35.5mm, 3300uF, 50V; Manufacturer Part Number: 860010681030; Manufacturer: Wurth Elektronik; Capacitance Tolerance: +/-20%; Dissipation Factor: 10%; Endurance: 2000h; Leakage Current: 1650uA; Ripple Current: 2750mA; Technical Reference: ATBL355332M050DSPAEB000; Category: Aluminum Electrolytic Capacitors; Match Code: WCAP-ATG8; ComponentLink1Description: Website Link; ComponentLink1URL: https://www.we-online.com/redexpert/article/860010681030?ad; ComponentLink2Description: Datasheet Link; ComponentLink2URL: https://www.we-online.com/redexpert/spec/860010681030?ad; Mount: Through Hole; Operating Temperature Max: 85°C; Operating Temperature Min: -40°C; Packaging: Ammo Pack; Height: 35.5mm; Diameter: 18mm; Capacitance: 3300uF; Rated Voltage (DC): 50V
footprint WCAP-ATG8_D18H35.5
simulation model 860010681030_3.3mF
pins: 1 P, 2 N
text: +

## 860010681031
designator C?, comment 3900uF  (value not drawn)
WCAP-ATG8 Aluminum Electrolytic Capacitor, Radial, THT, D18 x H41mm, 3900uF, 50V; Manufacturer Part Number: 860010681031; Manufacturer: Wurth Elektronik; Capacitance Tolerance: +/-20%; Dissipation Factor: 10%; Endurance: 2000h; Leakage Current: 1950uA; Ripple Current: 2871mA; Technical Reference: ATBL410392M050DSPS1B000; Category: Aluminum Electrolytic Capacitors; Match Code: WCAP-ATG8; ComponentLink1Description: Website Link; ComponentLink1URL: https://www.we-online.com/redexpert/article/860010681031?ad; ComponentLink2Description: Datasheet Link; ComponentLink2URL: https://www.we-online.com/redexpert/spec/860010681031?ad; Mount: Through Hole; Operating Temperature Max: 85°C; Operating Temperature Min: -40°C; Packaging: Ammo Pack; Height: 41mm; Diameter: 18mm; Capacitance: 3900uF; Rated Voltage (DC): 50V
footprint WCAP-ATG8_D18H41
simulation model 860010681031_3.9mF
pins: 1 P, 2 N
text: +

## 860010683032
designator C?, comment 4700uF  (value not drawn)
WCAP-ATG8 Aluminum Electrolytic Capacitor, Radial, THT, D22 x H41mm, 4700uF, 50V; Manufacturer Part Number: 860010683032; Manufacturer: Wurth Elektronik; Capacitance Tolerance: +/-20%; Dissipation Factor: 10%; Endurance: 2000h; Leakage Current: 2350uA; Ripple Current: 3355mA; Technical Reference: ATBN410472M050DSPS2B000; Category: Aluminum Electrolytic Capacitors; Match Code: WCAP-ATG8; ComponentLink1Description: Website Link; ComponentLink1URL: https://www.we-online.com/redexpert/article/860010683032?ad; ComponentLink2Description: Datasheet Link; ComponentLink2URL: https://www.we-online.com/redexpert/spec/860010683032?ad; Mount: Through Hole; Operating Temperature Max: 85°C; Operating Temperature Min: -40°C; Packaging: Ammo Pack; Height: 41mm; Diameter: 22mm; Capacitance: 4700uF; Rated Voltage (DC): 50V
footprint WCAP-ATG8_D22H41
simulation model 860010683032_4.7mF
pins: 1 P, 2 N
text: +

## 860010772001
designator C?, comment 0.1uF  (value not drawn)
WCAP-ATG8 Aluminum Electrolytic Capacitor, Radial, THT, D5 x H11mm, 0.1uF, 63V; Manufacturer Part Number: 860010772001; Manufacturer: Wurth Elektronik; Capacitance Tolerance: +/-20%; Dissipation Factor: 9%; Endurance: 2000h; Leakage Current: 3uA; Ripple Current: 4mA; Technical Reference: ATBC110R10M063DSPA3B000; Category: Aluminum Electrolytic Capacitors; Match Code: WCAP-ATG8; ComponentLink1Description: Website Link; ComponentLink1URL: https://www.we-online.com/redexpert/article/860010772001?ad; ComponentLink2Description: Datasheet Link; ComponentLink2URL: https://www.we-online.com/redexpert/spec/860010772001?ad; Mount: Through Hole; Operating Temperature Max: 85°C; Operating Temperature Min: -40°C; Packaging: Ammo Pack; Height: 11mm; Diameter: 5mm; Capacitance: 0.1uF; Rated Voltage (DC): 63V
footprint WCAP-ATG8_D5H11
simulation model 860010772001_100nF
pins: 1 P, 2 N
text: +

## 860010772002
designator C?, comment 0.22uF  (value not drawn)
WCAP-ATG8 Aluminum Electrolytic Capacitor, Radial, THT, D5 x H11mm, 0.22uF, 63V; Manufacturer Part Number: 860010772002; Manufacturer: Wurth Elektronik; Capacitance Tolerance: +/-20%; Dissipation Factor: 9%; Endurance: 2000h; Leakage Current: 3uA; Ripple Current: 4mA; Technical Reference: ATBC110R22M063DSPA3B000; Category: Aluminum Electrolytic Capacitors; Match Code: WCAP-ATG8; ComponentLink1Description: Website Link; ComponentLink1URL: https://www.we-online.com/redexpert/article/860010772002?ad; ComponentLink2Description: Datasheet Link; ComponentLink2URL: https://www.we-online.com/redexpert/spec/860010772002?ad; Mount: Through Hole; Operating Temperature Max: 85°C; Operating Temperature Min: -40°C; Packaging: Ammo Pack; Height: 11mm; Diameter: 5mm; Capacitance: 0.22uF; Rated Voltage (DC): 63V
footprint WCAP-ATG8_D5H11
simulation model 860010772002_220nF
pins: 1 P, 2 N
text: +

## 860010772003
designator C?, comment 0.33uF  (value not drawn)
WCAP-ATG8 Aluminum Electrolytic Capacitor, Radial, THT, D5 x H11mm, 0.33uF, 63V; Manufacturer Part Number: 860010772003; Manufacturer: Wurth Elektronik; Capacitance Tolerance: +/-20%; Dissipation Factor: 9%; Endurance: 2000h; Leakage Current: 3uA; Ripple Current: 6mA; Technical Reference: ATBC110R33M063DSPA3B000; Category: Aluminum Electrolytic Capacitors; Match Code: WCAP-ATG8; ComponentLink1Description: Website Link; ComponentLink1URL: https://www.we-online.com/redexpert/article/860010772003?ad; ComponentLink2Description: Datasheet Link; ComponentLink2URL: https://www.we-online.com/redexpert/spec/860010772003?ad; Mount: Through Hole; Operating Temperature Max: 85°C; Operating Temperature Min: -40°C; Packaging: Ammo Pack; Height: 11mm; Diameter: 5mm; Capacitance: 0.33uF; Rated Voltage (DC): 63V
footprint WCAP-ATG8_D5H11
simulation model 860010772003_330nF
pins: 1 P, 2 N
text: +